# Altium schematic symbol library Isolator.SchLib: 331 symbols (part 3 of 3)
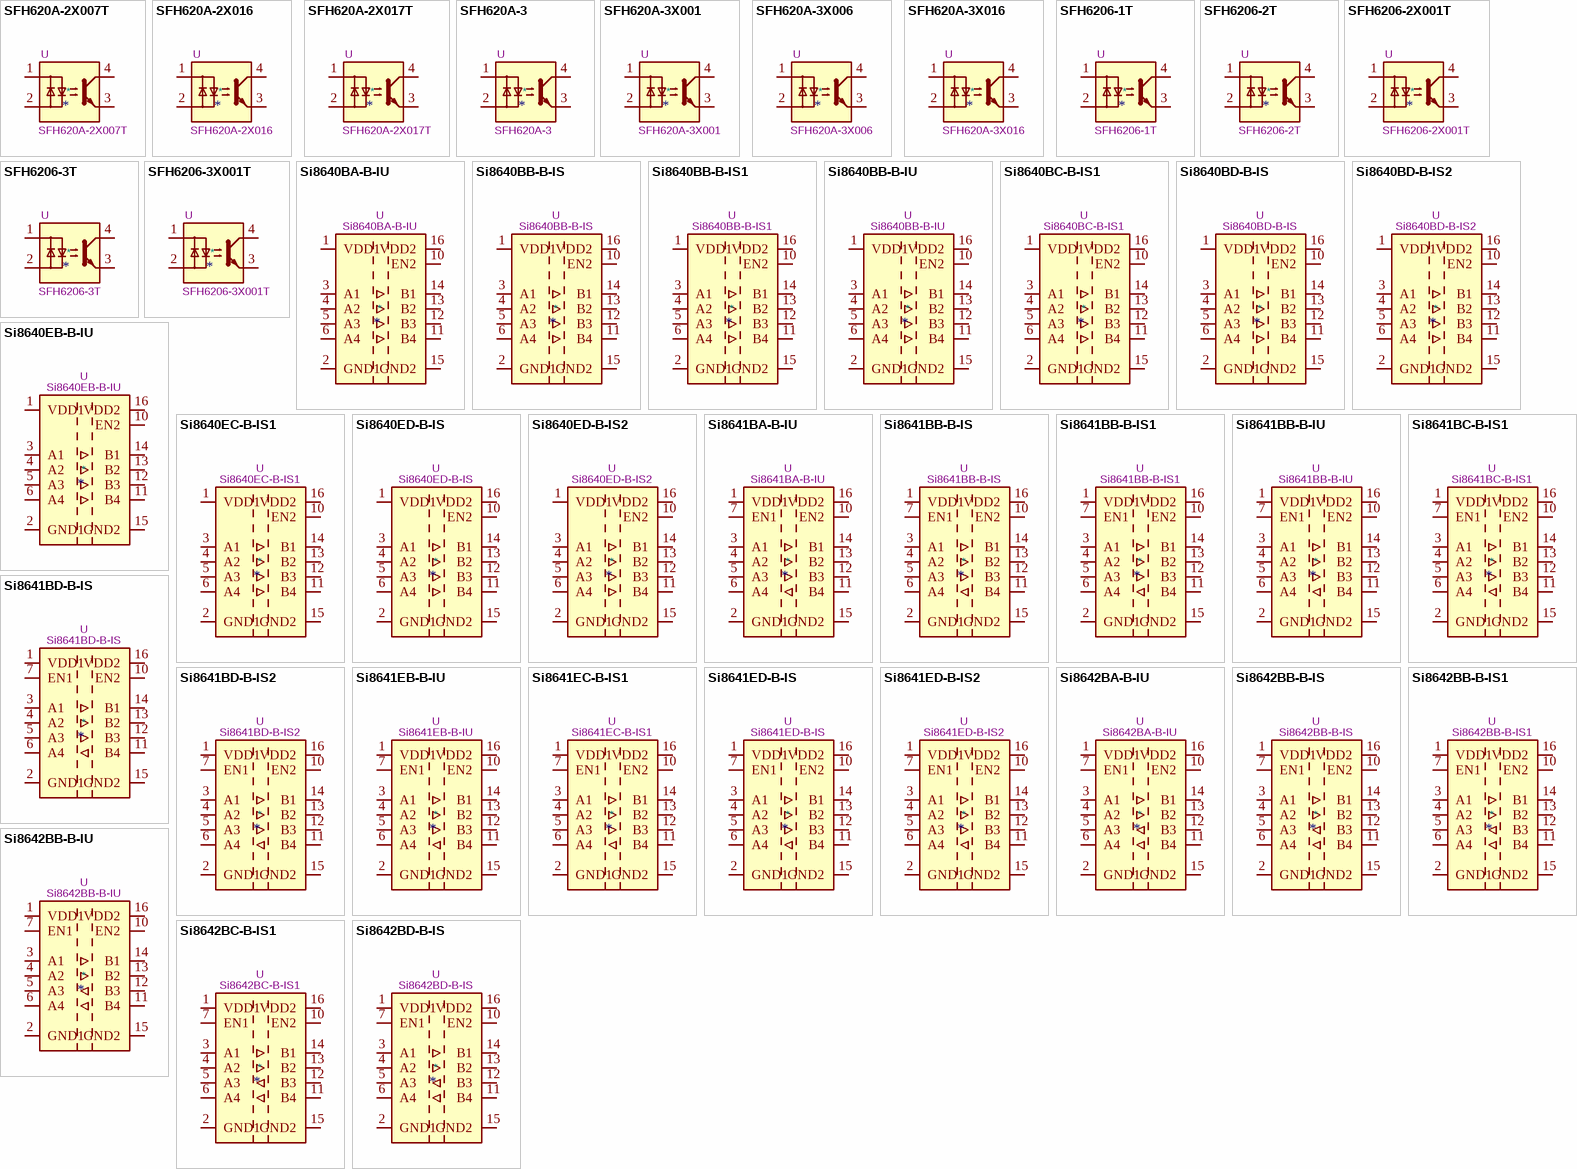
[diagram p11: symbols SFH620A-2X007T to Si8642BD-B-IS]

## Si8640BB-B-IU
designator *  value Si8640BB-B-IU  Reference: U
ki_keywords: 4Ch 4In Quad Digital Isolator 150Mbps; ki_description: Low-Power Quad-Channel Digital Isolator, 150Mbps, 2.5-5.5V, 2.5kV isolation, Fail-Safe Low, QSOP-16; ki_fp_filters: QSOP*3.9x4.9mm*P0.635mm*; Footprint: Package_SO:QSOP-16_3.9x4.9mm_P0.635mm; Datasheet: https://www.silabs.com/documents/public/data-sheets/si864x-datasheet.pdf
pins: 1 VDD1, 2 GND1, 3 A1, 4 A2, 5 A3, 6 A4, 7 NC hidden, 8 GND1 hidden, 9 GND2 hidden, 10 EN2, 11 B4, 12 B3, 13 B2, 14 B1, 15 GND2, 16 VDD2

## Si8640BC-B-IS1
designator *  value Si8640BC-B-IS1  Reference: U
ki_keywords: 4Ch 4In Quad Digital Isolator 150Mbps; ki_description: Low-Power Quad-Channel Digital Isolator, 150Mbps, 2.5-5.5V, 3.75kV isolation, Fail-Safe Low, SOIC-16; ki_fp_filters: SOIC*3.9x9.9mm*P1.27mm*; Footprint: Package_SO:SOIC-16_3.9x9.9mm_P1.27mm; Datasheet: https://www.silabs.com/documents/public/data-sheets/si864x-datasheet.pdf
pins: 1 VDD1, 2 GND1, 3 A1, 4 A2, 5 A3, 6 A4, 7 NC hidden, 8 GND1 hidden, 9 GND2 hidden, 10 EN2, 11 B4, 12 B3, 13 B2, 14 B1, 15 GND2, 16 VDD2

## Si8640BD-B-IS
designator *  value Si8640BD-B-IS  Reference: U
ki_keywords: 4Ch 4In Quad Digital Isolator 150Mbps; ki_description: Low-Power Quad-Channel Digital Isolator, 150Mbps, 2.5-5.5V, 5.0kV isolation, Fail-Safe Low, SOIC-16W; ki_fp_filters: SOIC*7.5x10.3mm*P1.27mm*; Footprint: Package_SO:SOIC-16W_7.5x10.3mm_P1.27mm; Datasheet: https://www.silabs.com/documents/public/data-sheets/si864x-datasheet.pdf
pins: 1 VDD1, 2 GND1, 3 A1, 4 A2, 5 A3, 6 A4, 7 NC hidden, 8 GND1 hidden, 9 GND2 hidden, 10 EN2, 11 B4, 12 B3, 13 B2, 14 B1, 15 GND2, 16 VDD2

## Si8640BD-B-IS2
designator *  value Si8640BD-B-IS2  Reference: U
ki_keywords: 4Ch 4In Quad Digital Isolator 150Mbps; ki_description: Low-Power Quad-Channel Digital Isolator, 150Mbps, 2.5-5.5V, 5.0kV isolation, Fail-Safe Low, 8mm creepage, SOIC-16W; ki_fp_filters: SOIC*7.5x10.3mm*P1.27mm*; Footprint: Package_SO:SOIC-16W_7.5x10.3mm_P1.27mm; Datasheet: https://www.silabs.com/documents/public/data-sheets/si864x-datasheet.pdf
pins: 1 VDD1, 2 GND1, 3 A1, 4 A2, 5 A3, 6 A4, 7 NC hidden, 8 GND1 hidden, 9 GND2 hidden, 10 EN2, 11 B4, 12 B3, 13 B2, 14 B1, 15 GND2, 16 VDD2

## Si8640EB-B-IU
designator *  value Si8640EB-B-IU  Reference: U
ki_keywords: 4Ch 4In Quad Digital Isolator 150Mbps; ki_description: Low-Power Quad-Channel Digital Isolator, 150Mbps, 2.5-5.5V, 2.5kV isolation, Fail-Safe High, QSOP-16; ki_fp_filters: QSOP*3.9x4.9mm*P0.635mm*; Footprint: Package_SO:QSOP-16_3.9x4.9mm_P0.635mm; Datasheet: https://www.silabs.com/documents/public/data-sheets/si864x-datasheet.pdf
pins: 1 VDD1, 2 GND1, 3 A1, 4 A2, 5 A3, 6 A4, 7 NC hidden, 8 GND1 hidden, 9 GND2 hidden, 10 EN2, 11 B4, 12 B3, 13 B2, 14 B1, 15 GND2, 16 VDD2

## Si8640EC-B-IS1
designator *  value Si8640EC-B-IS1  Reference: U
ki_keywords: 4Ch 4In Quad Digital Isolator 150Mbps; ki_description: Low-Power Quad-Channel Digital Isolator, 150Mbps, 2.5-5.5V, 3.75kV isolation, Fail-Safe High, SOIC-16; ki_fp_filters: SOIC*3.9x9.9mm*P1.27mm*; Footprint: Package_SO:SOIC-16_3.9x9.9mm_P1.27mm; Datasheet: https://www.silabs.com/documents/public/data-sheets/si864x-datasheet.pdf
pins: 1 VDD1, 2 GND1, 3 A1, 4 A2, 5 A3, 6 A4, 7 NC hidden, 8 GND1 hidden, 9 GND2 hidden, 10 EN2, 11 B4, 12 B3, 13 B2, 14 B1, 15 GND2, 16 VDD2

## Si8640ED-B-IS
designator *  value Si8640ED-B-IS  Reference: U
ki_keywords: 4Ch 4In Quad Digital Isolator 150Mbps; ki_description: Low-Power Quad-Channel Digital Isolator, 150Mbps, 2.5-5.5V, 5.0kV isolation, Fail-Safe High, SOIC-16W; ki_fp_filters: SOIC*7.5x10.3mm*P1.27mm*; Footprint: Package_SO:SOIC-16W_7.5x10.3mm_P1.27mm; Datasheet: https://www.silabs.com/documents/public/data-sheets/si864x-datasheet.pdf
pins: 1 VDD1, 2 GND1, 3 A1, 4 A2, 5 A3, 6 A4, 7 NC hidden, 8 GND1 hidden, 9 GND2 hidden, 10 EN2, 11 B4, 12 B3, 13 B2, 14 B1, 15 GND2, 16 VDD2

## Si8640ED-B-IS2
designator *  value Si8640ED-B-IS2  Reference: U
ki_keywords: 4Ch 4In Quad Digital Isolator 150Mbps; ki_description: Low-Power Quad-Channel Digital Isolator, 150Mbps, 2.5-5.5V, 5.0kV isolation, Fail-Safe High, 8mm creepage, SOIC-16W; ki_fp_filters: SOIC*7.5x10.3mm*P1.27mm*; Footprint: Package_SO:SOIC-16W_7.5x10.3mm_P1.27mm; Datasheet: https://www.silabs.com/documents/public/data-sheets/si864x-datasheet.pdf
pins: 1 VDD1, 2 GND1, 3 A1, 4 A2, 5 A3, 6 A4, 7 NC hidden, 8 GND1 hidden, 9 GND2 hidden, 10 EN2, 11 B4, 12 B3, 13 B2, 14 B1, 15 GND2, 16 VDD2

## Si8641BA-B-IU
designator *  value Si8641BA-B-IU  Reference: U
ki_keywords: 4Ch 3In 1Out Quad Digital Isolator 150Mbps; ki_description: Low-Power Quad-Channel Digital Isolator, 150Mbps, 2.5-5.5V, 1.0kV isolation, Fail-Safe Low, QSOP-16; ki_fp_filters: QSOP*3.9x4.9mm*P0.635mm*; Footprint: Package_SO:QSOP-16_3.9x4.9mm_P0.635mm; Datasheet: https://www.silabs.com/documents/public/data-sheets/si864x-datasheet.pdf
pins: 1 VDD1, 2 GND1, 3 A1, 4 A2, 5 A3, 6 A4, 7 EN1, 8 GND1 hidden, 9 GND2 hidden, 10 EN2, 11 B4, 12 B3, 13 B2, 14 B1, 15 GND2, 16 VDD2

## Si8641BB-B-IS
designator *  value Si8641BB-B-IS  Reference: U
ki_keywords: 4Ch 3In 1Out Quad Digital Isolator 150Mbps; ki_description: Low-Power Quad-Channel Digital Isolator, 150Mbps, 2.5-5.5V, 2.5kV isolation, Fail-Safe Low, SOIC-16W; ki_fp_filters: SOIC*7.5x10.3mm*P1.27mm*; Footprint: Package_SO:SOIC-16W_7.5x10.3mm_P1.27mm; Datasheet: https://www.silabs.com/documents/public/data-sheets/si864x-datasheet.pdf
pins: 1 VDD1, 2 GND1, 3 A1, 4 A2, 5 A3, 6 A4, 7 EN1, 8 GND1 hidden, 9 GND2 hidden, 10 EN2, 11 B4, 12 B3, 13 B2, 14 B1, 15 GND2, 16 VDD2

## Si8641BB-B-IS1
designator *  value Si8641BB-B-IS1  Reference: U
ki_keywords: 4Ch 3In 1Out Quad Digital Isolator 150Mbps; ki_description: Low-Power Quad-Channel Digital Isolator, 150Mbps, 2.5-5.5V, 2.5kV isolation, Fail-Safe Low, SOIC-16; ki_fp_filters: SOIC*3.9x9.9mm*P1.27mm*; Footprint: Package_SO:SOIC-16_3.9x9.9mm_P1.27mm; Datasheet: https://www.silabs.com/documents/public/data-sheets/si864x-datasheet.pdf
pins: 1 VDD1, 2 GND1, 3 A1, 4 A2, 5 A3, 6 A4, 7 EN1, 8 GND1 hidden, 9 GND2 hidden, 10 EN2, 11 B4, 12 B3, 13 B2, 14 B1, 15 GND2, 16 VDD2

## Si8641BB-B-IU
designator *  value Si8641BB-B-IU  Reference: U
ki_keywords: 4Ch 3In 1Out Quad Digital Isolator 150Mbps; ki_description: Low-Power Quad-Channel Digital Isolator, 150Mbps, 2.5-5.5V, 2.5kV isolation, Fail-Safe Low, QSOP-16; ki_fp_filters: QSOP*3.9x4.9mm*P0.635mm*; Footprint: Package_SO:QSOP-16_3.9x4.9mm_P0.635mm; Datasheet: https://www.silabs.com/documents/public/data-sheets/si864x-datasheet.pdf
pins: 1 VDD1, 2 GND1, 3 A1, 4 A2, 5 A3, 6 A4, 7 EN1, 8 GND1 hidden, 9 GND2 hidden, 10 EN2, 11 B4, 12 B3, 13 B2, 14 B1, 15 GND2, 16 VDD2

## Si8641BC-B-IS1
designator *  value Si8641BC-B-IS1  Reference: U
ki_keywords: 4Ch 3In 1Out Quad Digital Isolator 150Mbps; ki_description: Low-Power Quad-Channel Digital Isolator, 150Mbps, 2.5-5.5V, 3.75kV isolation, Fail-Safe Low, SOIC-16; ki_fp_filters: SOIC*3.9x9.9mm*P1.27mm*; Footprint: Package_SO:SOIC-16_3.9x9.9mm_P1.27mm; Datasheet: https://www.silabs.com/documents/public/data-sheets/si864x-datasheet.pdf
pins: 1 VDD1, 2 GND1, 3 A1, 4 A2, 5 A3, 6 A4, 7 EN1, 8 GND1 hidden, 9 GND2 hidden, 10 EN2, 11 B4, 12 B3, 13 B2, 14 B1, 15 GND2, 16 VDD2

## Si8641BD-B-IS
designator *  value Si8641BD-B-IS  Reference: U
ki_keywords: 4Ch 3In 1Out Quad Digital Isolator 150Mbps; ki_description: Low-Power Quad-Channel Digital Isolator, 150Mbps, 2.5-5.5V, 5.0kV isolation, Fail-Safe Low, SOIC-16W; ki_fp_filters: SOIC*7.5x10.3mm*P1.27mm*; Footprint: Package_SO:SOIC-16W_7.5x10.3mm_P1.27mm; Datasheet: https://www.silabs.com/documents/public/data-sheets/si864x-datasheet.pdf
pins: 1 VDD1, 2 GND1, 3 A1, 4 A2, 5 A3, 6 A4, 7 EN1, 8 GND1 hidden, 9 GND2 hidden, 10 EN2, 11 B4, 12 B3, 13 B2, 14 B1, 15 GND2, 16 VDD2

## Si8641BD-B-IS2
designator *  value Si8641BD-B-IS2  Reference: U
ki_keywords: 4Ch 3In 1Out Quad Digital Isolator 150Mbps; ki_description: Low-Power Quad-Channel Digital Isolator, 150Mbps, 2.5-5.5V, 5.0kV isolation, Fail-Safe Low, 8mm creepage, SOIC-16W; ki_fp_filters: SOIC*7.5x10.3mm*P1.27mm*; Footprint: Package_SO:SOIC-16W_7.5x10.3mm_P1.27mm; Datasheet: https://www.silabs.com/documents/public/data-sheets/si864x-datasheet.pdf
pins: 1 VDD1, 2 GND1, 3 A1, 4 A2, 5 A3, 6 A4, 7 EN1, 8 GND1 hidden, 9 GND2 hidden, 10 EN2, 11 B4, 12 B3, 13 B2, 14 B1, 15 GND2, 16 VDD2

## Si8641EB-B-IU
designator *  value Si8641EB-B-IU  Reference: U
ki_keywords: 4Ch 3In 1Out Quad Digital Isolator 150Mbps; ki_description: Low-Power Quad-Channel Digital Isolator, 150Mbps, 2.5-5.5V, 2.5kV isolation, Fail-Safe High, QSOP-16; ki_fp_filters: QSOP*3.9x4.9mm*P0.635mm*; Footprint: Package_SO:QSOP-16_3.9x4.9mm_P0.635mm; Datasheet: https://www.silabs.com/documents/public/data-sheets/si864x-datasheet.pdf
pins: 1 VDD1, 2 GND1, 3 A1, 4 A2, 5 A3, 6 A4, 7 EN1, 8 GND1 hidden, 9 GND2 hidden, 10 EN2, 11 B4, 12 B3, 13 B2, 14 B1, 15 GND2, 16 VDD2

## Si8641EC-B-IS1
designator *  value Si8641EC-B-IS1  Reference: U
ki_keywords: 4Ch 3In 1Out Quad Digital Isolator 150Mbps; ki_description: Low-Power Quad-Channel Digital Isolator, 150Mbps, 2.5-5.5V, 3.75kV isolation, Fail-Safe High, SOIC-16; ki_fp_filters: SOIC*3.9x9.9mm*P1.27mm*; Footprint: Package_SO:SOIC-16_3.9x9.9mm_P1.27mm; Datasheet: https://www.silabs.com/documents/public/data-sheets/si864x-datasheet.pdf
pins: 1 VDD1, 2 GND1, 3 A1, 4 A2, 5 A3, 6 A4, 7 EN1, 8 GND1 hidden, 9 GND2 hidden, 10 EN2, 11 B4, 12 B3, 13 B2, 14 B1, 15 GND2, 16 VDD2

## Si8641ED-B-IS
designator *  value Si8641ED-B-IS  Reference: U
ki_keywords: 4Ch 3In 1Out Quad Digital Isolator 150Mbps; ki_description: Low-Power Quad-Channel Digital Isolator, 150Mbps, 2.5-5.5V, 5.0kV isolation, Fail-Safe High, SOIC-16W; ki_fp_filters: SOIC*7.5x10.3mm*P1.27mm*; Footprint: Package_SO:SOIC-16W_7.5x10.3mm_P1.27mm; Datasheet: https://www.silabs.com/documents/public/data-sheets/si864x-datasheet.pdf
pins: 1 VDD1, 2 GND1, 3 A1, 4 A2, 5 A3, 6 A4, 7 EN1, 8 GND1 hidden, 9 GND2 hidden, 10 EN2, 11 B4, 12 B3, 13 B2, 14 B1, 15 GND2, 16 VDD2

## Si8641ED-B-IS2
designator *  value Si8641ED-B-IS2  Reference: U
ki_keywords: 4Ch 3In 1Out Quad Digital Isolator 150Mbps; ki_description: Low-Power Quad-Channel Digital Isolator, 150Mbps, 2.5-5.5V, 5.0kV isolation, Fail-Safe High, 8mm creepage, SOIC-16W; ki_fp_filters: SOIC*7.5x10.3mm*P1.27mm*; Footprint: Package_SO:SOIC-16W_7.5x10.3mm_P1.27mm; Datasheet: https://www.silabs.com/documents/public/data-sheets/si864x-datasheet.pdf
pins: 1 VDD1, 2 GND1, 3 A1, 4 A2, 5 A3, 6 A4, 7 EN1, 8 GND1 hidden, 9 GND2 hidden, 10 EN2, 11 B4, 12 B3, 13 B2, 14 B1, 15 GND2, 16 VDD2

## Si8642BA-B-IU
designator *  value Si8642BA-B-IU  Reference: U
ki_keywords: 4Ch 2In 2Out Quad Digital Isolator 150Mbps; ki_description: Low-Power Quad-Channel Digital Isolator, 150Mbps, 2.5-5.5V, 1.0kV isolation, Fail-Safe Low, QSOP-16; ki_fp_filters: QSOP*3.9x4.9mm*P0.635mm*; Footprint: Package_SO:QSOP-16_3.9x4.9mm_P0.635mm; Datasheet: https://www.silabs.com/documents/public/data-sheets/si864x-datasheet.pdf
pins: 1 VDD1, 2 GND1, 3 A1, 4 A2, 5 A3, 6 A4, 7 EN1, 8 GND1 hidden, 9 GND2 hidden, 10 EN2, 11 B4, 12 B3, 13 B2, 14 B1, 15 GND2, 16 VDD2

## Si8642BB-B-IS
designator *  value Si8642BB-B-IS  Reference: U
ki_keywords: 4Ch 2In 2Out Quad Digital Isolator 150Mbps; ki_description: Low-Power Quad-Channel Digital Isolator, 150Mbps, 2.5-5.5V, 2.5kV isolation, Fail-Safe Low, SOIC-16W; ki_fp_filters: SOIC*7.5x10.3mm*P1.27mm*; Footprint: Package_SO:SOIC-16W_7.5x10.3mm_P1.27mm; Datasheet: https://www.silabs.com/documents/public/data-sheets/si864x-datasheet.pdf
pins: 1 VDD1, 2 GND1, 3 A1, 4 A2, 5 A3, 6 A4, 7 EN1, 8 GND1 hidden, 9 GND2 hidden, 10 EN2, 11 B4, 12 B3, 13 B2, 14 B1, 15 GND2, 16 VDD2

## Si8642BB-B-IS1
designator *  value Si8642BB-B-IS1  Reference: U
ki_keywords: 4Ch 2In 2Out Quad Digital Isolator 150Mbps; ki_description: Low-Power Quad-Channel Digital Isolator, 150Mbps, 2.5-5.5V, 2.5kV isolation, Fail-Safe Low, SOIC-16; ki_fp_filters: SOIC*3.9x9.9mm*P1.27mm*; Footprint: Package_SO:SOIC-16_3.9x9.9mm_P1.27mm; Datasheet: https://www.silabs.com/documents/public/data-sheets/si864x-datasheet.pdf
pins: 1 VDD1, 2 GND1, 3 A1, 4 A2, 5 A3, 6 A4, 7 EN1, 8 GND1 hidden, 9 GND2 hidden, 10 EN2, 11 B4, 12 B3, 13 B2, 14 B1, 15 GND2, 16 VDD2

## Si8642BB-B-IU
designator *  value Si8642BB-B-IU  Reference: U
ki_keywords: 4Ch 2In 2Out Quad Digital Isolator 150Mbps; ki_description: Low-Power Quad-Channel Digital Isolator, 150Mbps, 2.5-5.5V, 2.5kV isolation, Fail-Safe Low, QSOP-16; ki_fp_filters: QSOP*3.9x4.9mm*P0.635mm*; Footprint: Package_SO:QSOP-16_3.9x4.9mm_P0.635mm; Datasheet: https://www.silabs.com/documents/public/data-sheets/si864x-datasheet.pdf
pins: 1 VDD1, 2 GND1, 3 A1, 4 A2, 5 A3, 6 A4, 7 EN1, 8 GND1 hidden, 9 GND2 hidden, 10 EN2, 11 B4, 12 B3, 13 B2, 14 B1, 15 GND2, 16 VDD2

## Si8642BC-B-IS1
designator *  value Si8642BC-B-IS1  Reference: U
ki_keywords: 4Ch 2In 2Out Quad Digital Isolator 150Mbps; ki_description: Low-Power Quad-Channel Digital Isolator, 150Mbps, 2.5-5.5V, 3.75kV isolation, Fail-Safe Low, SOIC-16; ki_fp_filters: SOIC*3.9x9.9mm*P1.27mm*; Footprint: Package_SO:SOIC-16_3.9x9.9mm_P1.27mm; Datasheet: https://www.silabs.com/documents/public/data-sheets/si864x-datasheet.pdf
pins: 1 VDD1, 2 GND1, 3 A1, 4 A2, 5 A3, 6 A4, 7 EN1, 8 GND1 hidden, 9 GND2 hidden, 10 EN2, 11 B4, 12 B3, 13 B2, 14 B1, 15 GND2, 16 VDD2

## Si8642BD-B-IS
designator *  value Si8642BD-B-IS  Reference: U
ki_keywords: 4Ch 2In 2Out Quad Digital Isolator 150Mbps; ki_description: Low-Power Quad-Channel Digital Isolator, 150Mbps, 2.5-5.5V, 5.0kV isolation, Fail-Safe Low, SOIC-16W; ki_fp_filters: SOIC*7.5x10.3mm*P1.27mm*; Footprint: Package_SO:SOIC-16W_7.5x10.3mm_P1.27mm; Datasheet: https://www.silabs.com/documents/public/data-sheets/si864x-datasheet.pdf
pins: 1 VDD1, 2 GND1, 3 A1, 4 A2, 5 A3, 6 A4, 7 EN1, 8 GND1 hidden, 9 GND2 hidden, 10 EN2, 11 B4, 12 B3, 13 B2, 14 B1, 15 GND2, 16 VDD2

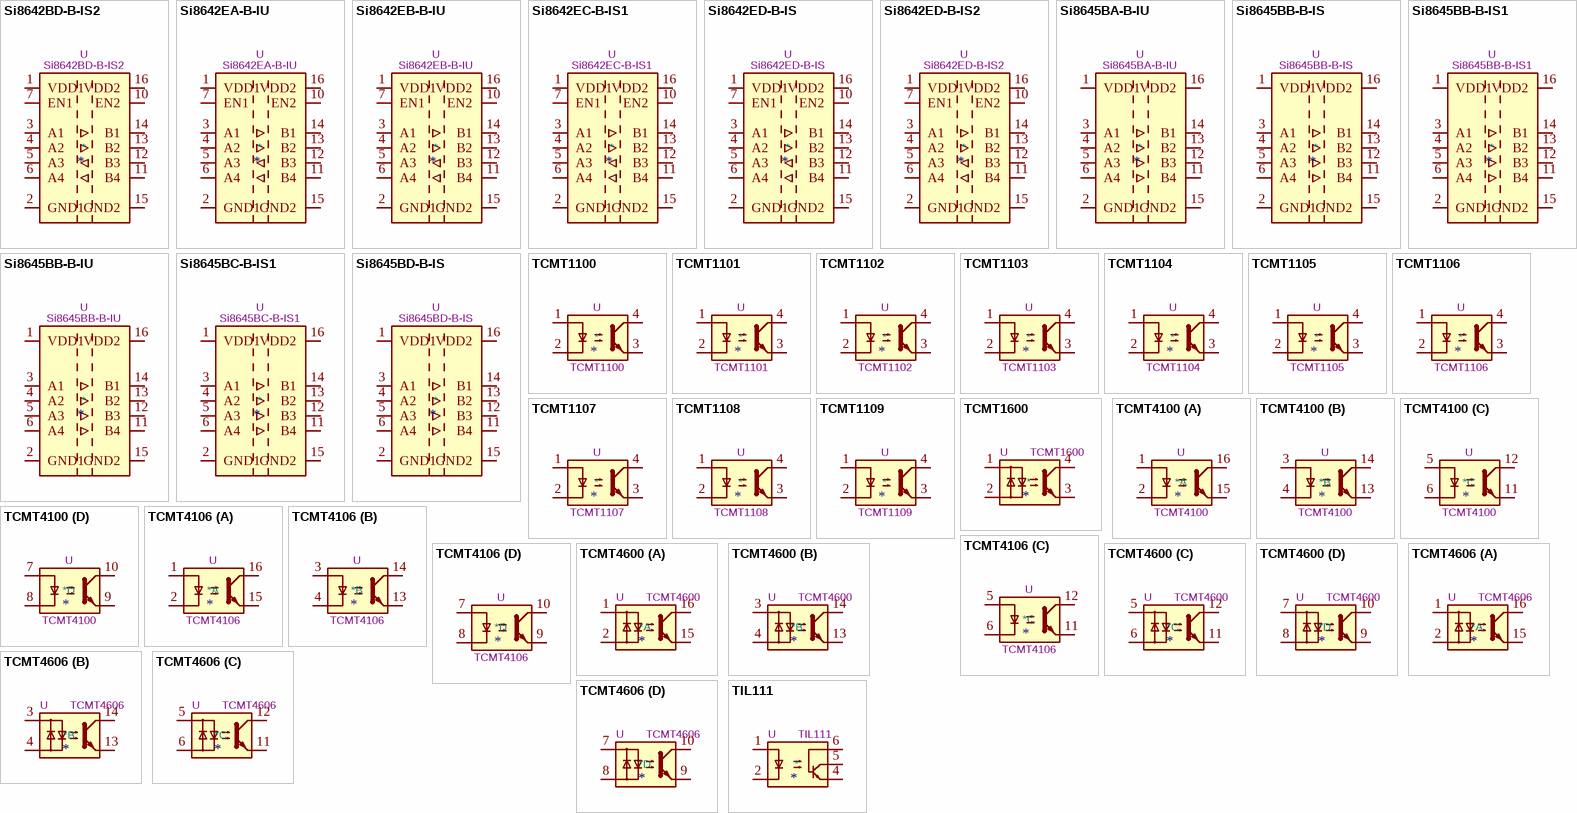
[diagram p7: symbols Si8642BD-B-IS2 to TIL111]

## Si8642BD-B-IS2
designator *  value Si8642BD-B-IS2  Reference: U
ki_keywords: 4Ch 2In 2Out Quad Digital Isolator 150Mbps; ki_description: Low-Power Quad-Channel Digital Isolator, 150Mbps, 2.5-5.5V, 5.0kV isolation, Fail-Safe Low, 8mm creepage, SOIC-16W; ki_fp_filters: SOIC*7.5x10.3mm*P1.27mm*; Footprint: Package_SO:SOIC-16W_7.5x10.3mm_P1.27mm; Datasheet: https://www.silabs.com/documents/public/data-sheets/si864x-datasheet.pdf
pins: 1 VDD1, 2 GND1, 3 A1, 4 A2, 5 A3, 6 A4, 7 EN1, 8 GND1 hidden, 9 GND2 hidden, 10 EN2, 11 B4, 12 B3, 13 B2, 14 B1, 15 GND2, 16 VDD2

## Si8642EA-B-IU
designator *  value Si8642EA-B-IU  Reference: U
ki_keywords: 4Ch 2In 2Out Quad Digital Isolator 150Mbps; ki_description: Low-Power Quad-Channel Digital Isolator, 150Mbps, 2.5-5.5V, 1.0kV isolation, Fail-Safe High, QSOP-16; ki_fp_filters: QSOP*3.9x4.9mm*P0.635mm*; Footprint: Package_SO:QSOP-16_3.9x4.9mm_P0.635mm; Datasheet: https://www.silabs.com/documents/public/data-sheets/si864x-datasheet.pdf
pins: 1 VDD1, 2 GND1, 3 A1, 4 A2, 5 A3, 6 A4, 7 EN1, 8 GND1 hidden, 9 GND2 hidden, 10 EN2, 11 B4, 12 B3, 13 B2, 14 B1, 15 GND2, 16 VDD2

## Si8642EB-B-IU
designator *  value Si8642EB-B-IU  Reference: U
ki_keywords: 4Ch 2In 2Out Quad Digital Isolator 150Mbps; ki_description: Low-Power Quad-Channel Digital Isolator, 150Mbps, 2.5-5.5V, 2.5kV isolation, Fail-Safe High, QSOP-16; ki_fp_filters: QSOP*3.9x4.9mm*P0.635mm*; Footprint: Package_SO:QSOP-16_3.9x4.9mm_P0.635mm; Datasheet: https://www.silabs.com/documents/public/data-sheets/si864x-datasheet.pdf
pins: 1 VDD1, 2 GND1, 3 A1, 4 A2, 5 A3, 6 A4, 7 EN1, 8 GND1 hidden, 9 GND2 hidden, 10 EN2, 11 B4, 12 B3, 13 B2, 14 B1, 15 GND2, 16 VDD2

## Si8642EC-B-IS1
designator *  value Si8642EC-B-IS1  Reference: U
ki_keywords: 4Ch 2In 2Out Quad Digital Isolator 150Mbps; ki_description: Low-Power Quad-Channel Digital Isolator, 150Mbps, 2.5-5.5V, 3.75kV isolation, Fail-Safe High, SOIC-16; ki_fp_filters: SOIC*3.9x9.9mm*P1.27mm*; Footprint: Package_SO:SOIC-16_3.9x9.9mm_P1.27mm; Datasheet: https://www.silabs.com/documents/public/data-sheets/si864x-datasheet.pdf
pins: 1 VDD1, 2 GND1, 3 A1, 4 A2, 5 A3, 6 A4, 7 EN1, 8 GND1 hidden, 9 GND2 hidden, 10 EN2, 11 B4, 12 B3, 13 B2, 14 B1, 15 GND2, 16 VDD2

## Si8642ED-B-IS
designator *  value Si8642ED-B-IS  Reference: U
ki_keywords: 4Ch 2In 2Out Quad Digital Isolator 150Mbps; ki_description: Low-Power Quad-Channel Digital Isolator, 150Mbps, 2.5-5.5V, 5.0kV isolation, Fail-Safe High, SOIC-16W; ki_fp_filters: SOIC*7.5x10.3mm*P1.27mm*; Footprint: Package_SO:SOIC-16W_7.5x10.3mm_P1.27mm; Datasheet: https://www.silabs.com/documents/public/data-sheets/si864x-datasheet.pdf
pins: 1 VDD1, 2 GND1, 3 A1, 4 A2, 5 A3, 6 A4, 7 EN1, 8 GND1 hidden, 9 GND2 hidden, 10 EN2, 11 B4, 12 B3, 13 B2, 14 B1, 15 GND2, 16 VDD2

## Si8642ED-B-IS2
designator *  value Si8642ED-B-IS2  Reference: U
ki_keywords: 4Ch 2In 2Out Quad Digital Isolator 150Mbps; ki_description: Low-Power Quad-Channel Digital Isolator, 150Mbps, 2.5-5.5V, 5.0kV isolation, Fail-Safe High, 8mm creepage, SOIC-16W; ki_fp_filters: SOIC*7.5x10.3mm*P1.27mm*; Footprint: Package_SO:SOIC-16W_7.5x10.3mm_P1.27mm; Datasheet: https://www.silabs.com/documents/public/data-sheets/si864x-datasheet.pdf
pins: 1 VDD1, 2 GND1, 3 A1, 4 A2, 5 A3, 6 A4, 7 EN1, 8 GND1 hidden, 9 GND2 hidden, 10 EN2, 11 B4, 12 B3, 13 B2, 14 B1, 15 GND2, 16 VDD2

## Si8645BA-B-IU
designator *  value Si8645BA-B-IU  Reference: U
ki_keywords: 4Ch 4In Quad Digital Isolator 150Mbps; ki_description: Low-Power Quad-Channel Digital Isolator, 150Mbps, 2.5-5.5V, 1.0kV isolation, Fail-Safe Low, QSOP-16; ki_fp_filters: QSOP*3.9x4.9mm*P0.635mm*; Footprint: Package_SO:QSOP-16_3.9x4.9mm_P0.635mm; Datasheet: https://www.silabs.com/documents/public/data-sheets/si864x-datasheet.pdf
pins: 1 VDD1, 2 GND1, 3 A1, 4 A2, 5 A3, 6 A4, 7 NC hidden, 8 GND1 hidden, 9 GND2 hidden, 10 NC hidden, 11 B4, 12 B3, 13 B2, 14 B1, 15 GND2, 16 VDD2

## Si8645BB-B-IS
designator *  value Si8645BB-B-IS  Reference: U
ki_keywords: 4Ch 4In Quad Digital Isolator 150Mbps; ki_description: Low-Power Quad-Channel Digital Isolator, 150Mbps, 2.5-5.5V, 2.5kV isolation, Fail-Safe Low, SOIC-16W; ki_fp_filters: SOIC*7.5x10.3mm*P1.27mm*; Footprint: Package_SO:SOIC-16W_7.5x10.3mm_P1.27mm; Datasheet: https://www.silabs.com/documents/public/data-sheets/si864x-datasheet.pdf
pins: 1 VDD1, 2 GND1, 3 A1, 4 A2, 5 A3, 6 A4, 7 NC hidden, 8 GND1 hidden, 9 GND2 hidden, 10 NC hidden, 11 B4, 12 B3, 13 B2, 14 B1, 15 GND2, 16 VDD2

## Si8645BB-B-IS1
designator *  value Si8645BB-B-IS1  Reference: U
ki_keywords: 4Ch 4In Quad Digital Isolator 150Mbps; ki_description: Low-Power Quad-Channel Digital Isolator, 150Mbps, 2.5-5.5V, 2.5kV isolation, Fail-Safe Low, SOIC-16; ki_fp_filters: SOIC*3.9x9.9mm*P1.27mm*; Footprint: Package_SO:SOIC-16_3.9x9.9mm_P1.27mm; Datasheet: https://www.silabs.com/documents/public/data-sheets/si864x-datasheet.pdf
pins: 1 VDD1, 2 GND1, 3 A1, 4 A2, 5 A3, 6 A4, 7 NC hidden, 8 GND1 hidden, 9 GND2 hidden, 10 NC hidden, 11 B4, 12 B3, 13 B2, 14 B1, 15 GND2, 16 VDD2

## Si8645BB-B-IU
designator *  value Si8645BB-B-IU  Reference: U
ki_keywords: 4Ch 4In Quad Digital Isolator 150Mbps; ki_description: Low-Power Quad-Channel Digital Isolator, 150Mbps, 2.5-5.5V, 2.5kV isolation, Fail-Safe Low, QSOP-16; ki_fp_filters: QSOP*3.9x4.9mm*P0.635mm*; Footprint: Package_SO:QSOP-16_3.9x4.9mm_P0.635mm; Datasheet: https://www.silabs.com/documents/public/data-sheets/si864x-datasheet.pdf
pins: 1 VDD1, 2 GND1, 3 A1, 4 A2, 5 A3, 6 A4, 7 NC hidden, 8 GND1 hidden, 9 GND2 hidden, 10 NC hidden, 11 B4, 12 B3, 13 B2, 14 B1, 15 GND2, 16 VDD2

## Si8645BC-B-IS1
designator *  value Si8645BC-B-IS1  Reference: U
ki_keywords: 4Ch 4In Quad Digital Isolator 150Mbps; ki_description: Low-Power Quad-Channel Digital Isolator, 150Mbps, 2.5-5.5V, 3.75kV isolation, Fail-Safe Low, SOIC-16; ki_fp_filters: SOIC*3.9x9.9mm*P1.27mm*; Footprint: Package_SO:SOIC-16_3.9x9.9mm_P1.27mm; Datasheet: https://www.silabs.com/documents/public/data-sheets/si864x-datasheet.pdf
pins: 1 VDD1, 2 GND1, 3 A1, 4 A2, 5 A3, 6 A4, 7 NC hidden, 8 GND1 hidden, 9 GND2 hidden, 10 NC hidden, 11 B4, 12 B3, 13 B2, 14 B1, 15 GND2, 16 VDD2

## Si8645BD-B-IS
designator *  value Si8645BD-B-IS  Reference: U
ki_keywords: 4Ch 4In Quad Digital Isolator 150Mbps; ki_description: Low-Power Quad-Channel Digital Isolator, 150Mbps, 2.5-5.5V, 5.0kV isolation, Fail-Safe Low, SOIC-16W; ki_fp_filters: SOIC*7.5x10.3mm*P1.27mm*; Footprint: Package_SO:SOIC-16W_7.5x10.3mm_P1.27mm; Datasheet: https://www.silabs.com/documents/public/data-sheets/si864x-datasheet.pdf
pins: 1 VDD1, 2 GND1, 3 A1, 4 A2, 5 A3, 6 A4, 7 NC hidden, 8 GND1 hidden, 9 GND2 hidden, 10 NC hidden, 11 B4, 12 B3, 13 B2, 14 B1, 15 GND2, 16 VDD2

## TCMT1100
designator *  value TCMT1100  Reference: U
ki_keywords: NPN DC opto; ki_description: Optocoupler, Vce 70V, CTR 50-600%, Viso 3750V (RMS), SOP-4; ki_fp_filters: SOP*4.4x2.6mm*P1.27mm*; Footprint: Package_SO:SOP-4_4.4x2.6mm_P1.27mm; Datasheet: http://www.vishay.com/docs/83510/tcmt1100.pdf
pins: 1, 2, 3, 4

## TCMT1101
designator *  value TCMT1101  Reference: U
ki_keywords: NPN DC opto; ki_description: Optocoupler, Vce 70V, CTR 40-80%, Viso 3750V (RMS), SOP-4; ki_fp_filters: SOP*4.4x2.6mm*P1.27mm*; Footprint: Package_SO:SOP-4_4.4x2.6mm_P1.27mm; Datasheet: http://www.vishay.com/docs/83510/tcmt1100.pdf
pins: 1, 2, 3, 4

## TCMT1102
designator *  value TCMT1102  Reference: U
ki_keywords: NPN DC opto; ki_description: Optocoupler, Vce 70V, CTR 63-125%, Viso 3750V (RMS), SOP-4; ki_fp_filters: SOP*4.4x2.6mm*P1.27mm*; Footprint: Package_SO:SOP-4_4.4x2.6mm_P1.27mm; Datasheet: http://www.vishay.com/docs/83510/tcmt1100.pdf
pins: 1, 2, 3, 4

## TCMT1103
designator *  value TCMT1103  Reference: U
ki_keywords: NPN DC opto; ki_description: Optocoupler, Vce 70V, CTR 100-200%, Viso 3750V (RMS), SOP-4; ki_fp_filters: SOP*4.4x2.6mm*P1.27mm*; Footprint: Package_SO:SOP-4_4.4x2.6mm_P1.27mm; Datasheet: http://www.vishay.com/docs/83510/tcmt1100.pdf
pins: 1, 2, 3, 4

## TCMT1104
designator *  value TCMT1104  Reference: U
ki_keywords: NPN DC opto; ki_description: Optocoupler, Vce 70V, CTR 160-320%, Viso 3750V (RMS), SOP-4; ki_fp_filters: SOP*4.4x2.6mm*P1.27mm*; Footprint: Package_SO:SOP-4_4.4x2.6mm_P1.27mm; Datasheet: http://www.vishay.com/docs/83510/tcmt1100.pdf
pins: 1, 2, 3, 4

## TCMT1105
designator *  value TCMT1105  Reference: U
ki_keywords: NPN DC opto; ki_description: Optocoupler, Vce 70V, CTR 50-150%, Viso 3750V (RMS), SOP-4; ki_fp_filters: SOP*4.4x2.6mm*P1.27mm*; Footprint: Package_SO:SOP-4_4.4x2.6mm_P1.27mm; Datasheet: http://www.vishay.com/docs/83510/tcmt1100.pdf
pins: 1, 2, 3, 4

## TCMT1106
designator *  value TCMT1106  Reference: U
ki_keywords: NPN DC opto; ki_description: Optocoupler, Vce 70V, CTR 100-300%, Viso 3750V (RMS), SOP-4; ki_fp_filters: SOP*4.4x2.6mm*P1.27mm*; Footprint: Package_SO:SOP-4_4.4x2.6mm_P1.27mm; Datasheet: http://www.vishay.com/docs/83510/tcmt1100.pdf
pins: 1, 2, 3, 4

## TCMT1107
designator *  value TCMT1107  Reference: U
ki_keywords: NPN DC opto; ki_description: Optocoupler, Vce 70V, CTR 80-160%, Viso 3750V (RMS), SOP-4; ki_fp_filters: SOP*4.4x2.6mm*P1.27mm*; Footprint: Package_SO:SOP-4_4.4x2.6mm_P1.27mm; Datasheet: http://www.vishay.com/docs/83510/tcmt1100.pdf
pins: 1, 2, 3, 4

## TCMT1108
designator *  value TCMT1108  Reference: U
ki_keywords: NPN DC opto; ki_description: Optocoupler, Vce 70V, CTR 130-260%, Viso 3750V (RMS), SOP-4; ki_fp_filters: SOP*4.4x2.6mm*P1.27mm*; Footprint: Package_SO:SOP-4_4.4x2.6mm_P1.27mm; Datasheet: http://www.vishay.com/docs/83510/tcmt1100.pdf
pins: 1, 2, 3, 4

## TCMT1109
designator *  value TCMT1109  Reference: U
ki_keywords: NPN DC opto; ki_description: Optocoupler, Vce 70V, CTR 200-400%, Viso 3750V (RMS), SOP-4; ki_fp_filters: SOP*4.4x2.6mm*P1.27mm*; Footprint: Package_SO:SOP-4_4.4x2.6mm_P1.27mm; Datasheet: http://www.vishay.com/docs/83510/tcmt1100.pdf
pins: 1, 2, 3, 4

## TCMT1600
designator *  value TCMT1600  Reference: U
ki_keywords: NPN AC DC Phototransistor Optocoupler; ki_description: AC/DC Phototransistor Optocoupler, Vce 70V, CTR 80-300%, SOP4; ki_fp_filters: SOP*4*4.4x2.6mm*P1.27mm*; Footprint: Package_SO:SOP-4_4.4x2.6mm_P1.27mm; Datasheet: http://www.vishay.com/docs/83512/tcmt1600.pdf
pins: 1, 2, 3, 4

## TCMT4100
designator *  value TCMT4100  Reference: U
ki_keywords: NPN DC opto; ki_description: Quad Optocoupler, Vce 70V, CTR 50-600%, Viso 3750V (RMS), SOP-16; ki_fp_filters: SOP*4.4x10.4mm*P1.27mm*; Footprint: Package_SO:SOP-16_4.4x10.4mm_P1.27mm; Datasheet: https://www.vishay.com/docs/84181/tcmt4100.pdf
part A pins: 1, 2, 15, 16
part B pins: 3, 4, 13, 14
part C pins: 5, 6, 11, 12
part D pins: 7, 8, 9, 10

## TCMT4106
designator *  value TCMT4106  Reference: U
ki_keywords: NPN DC opto; ki_description: Quad Optocoupler, Vce 70V, CTR 100-300%, Viso 3750V (RMS), SOP-16; ki_fp_filters: SOP*4.4x10.4mm*P1.27mm*; Footprint: Package_SO:SOP-16_4.4x10.4mm_P1.27mm; Datasheet: https://www.vishay.com/docs/84181/tcmt4100.pdf
part A pins: 1, 2, 15, 16
part B pins: 3, 4, 13, 14
part C pins: 5, 6, 11, 12
part D pins: 7, 8, 9, 10

## TCMT4600
designator *  value TCMT4600  Reference: U
ki_keywords: NPN AC DC Quad Phototransistor Optocoupler; ki_description: Quad AC/DC Phototransistor Optocoupler, Vce 70V, CTR 80-300%, SOP16; ki_fp_filters: SOP*4.55x10.3mm*P1.27mm*; Footprint: Package_SO:SOP-16_4.55x10.3mm_P1.27mm; Datasheet: http://www.vishay.com/docs/83512/tcmt1600.pdf
part A pins: 1, 2, 15, 16
part B pins: 3, 4, 13, 14
part C pins: 5, 6, 11, 12
part D pins: 7, 8, 9, 10

## TCMT4606
designator *  value TCMT4606  Reference: U
ki_keywords: NPN AC DC Quad Phototransistor Optocoupler; ki_description: Quad AC/DC Phototransistor Optocoupler, Vce 70V, CTR 100-300%, SOP16; ki_fp_filters: SOP*4.55x10.3mm*P1.27mm*; Footprint: Package_SO:SOP-16_4.55x10.3mm_P1.27mm; Datasheet: http://www.vishay.com/docs/83512/tcmt1600.pdf
part A pins: 1, 2, 15, 16
part B pins: 3, 4, 13, 14
part C pins: 5, 6, 11, 12
part D pins: 7, 8, 9, 10

## TIL111
designator *  value TIL111  Reference: U
ki_keywords: NPN DC Optocoupler Base Connected; ki_description: DC Optocoupler, Phototransistor NPN, DIP6; ki_fp_filters: DIP*W7.62mm*; Footprint: Package_DIP:DIP-6_W7.62mm; Datasheet: https://www.egr.msu.edu/eceshop/Parts_Inventory/datasheets/til111.pdf
pins: 1, 2, 3 NC hidden, 4, 5, 6

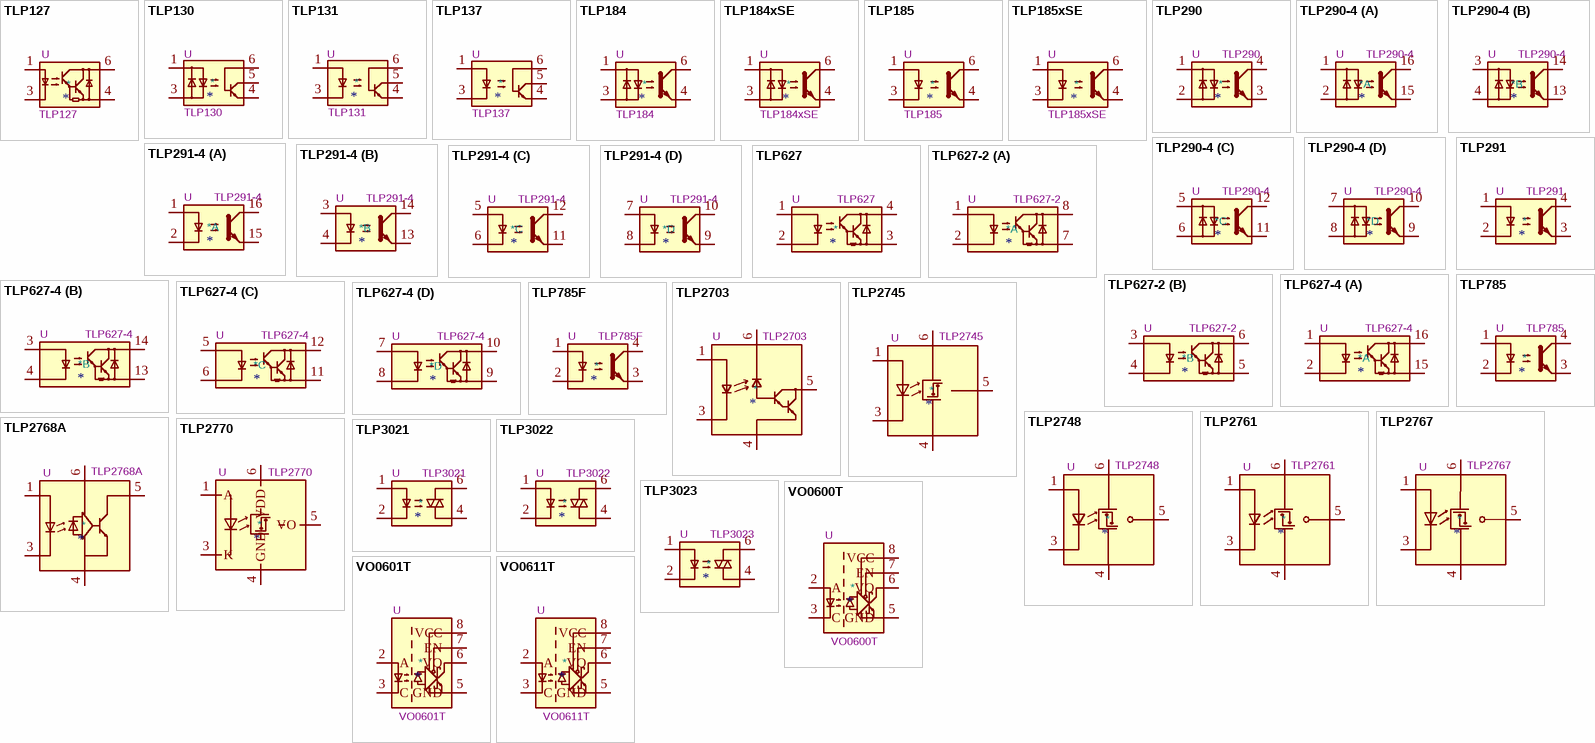
[diagram p8: symbols TLP127 to VO0611T]

## TLP127
designator *  value TLP127  Reference: U
ki_keywords: NPN Darlington DC Optocoupler; ki_description: DC Darlington Optocoupler, Vce 300V, CTR 1000%, MFSOP4; ki_fp_filters: MFSOP6*4.4x3.6mm*P1.27mm*; Footprint: Package_SO:MFSOP6-4_4.4x3.6mm_P1.27mm; Datasheet: https://toshiba.semicon-storage.com/info/docget.jsp?did=16902&prodName=TLP127
pins: 1, 3, 4, 6

## TLP130
designator *  value TLP130  Reference: U
ki_keywords: NPN AC DC Optocoupler Base Connected; ki_description: AC DC Optocoupler Base Connected, Vce 80V, CTR 50-100%, MFSOP6; ki_fp_filters: MFSOP6*4.4x3.6mm*P1.27mm*; Footprint: Package_SO:MFSOP6-5_4.4x3.6mm_P1.27mm; Datasheet: https://toshiba.semicon-storage.com/info/docget.jsp?did=16740&prodName=TLP130
pins: 1, 3, 4, 5, 6

## TLP131
designator *  value TLP131  Reference: U
ki_keywords: NPN DC Optocoupler Base Connected; ki_description: DC Optocoupler Base Connected, Vce 80V, CTR 50-200%, MFSOP6; ki_fp_filters: MFSOP6*4.4x3.6mm*P1.27mm*; Footprint: Package_SO:MFSOP6-5_4.4x3.6mm_P1.27mm; Datasheet: https://toshiba.semicon-storage.com/info/docget.jsp?did=16742&prodName=TLP131
pins: 1, 3, 4, 5, 6

## TLP137
designator *  value TLP137  Reference: U
ki_keywords: NPN DC Optocoupler Base Connected; ki_description: DC Optocoupler Base Connected, Vce 80V, CTR 100-200%, MFSOP6; ki_fp_filters: MFSOP6*4.4x3.6mm*P1.27mm*; Footprint: Package_SO:MFSOP6-5_4.4x3.6mm_P1.27mm; Datasheet: https://toshiba.semicon-storage.com/info/docget.jsp?did=16744&prodName=TLP137
pins: 1, 3, 4, 5, 6

## TLP184
designator *  value TLP184  Reference: U
ki_keywords: NPN AC DC Optocoupler; ki_description: AC/DC Optocoupler, Vce 80V, CTR 50-100%, MFSOP6; ki_fp_filters: MFSOP6*4.4x3.6mm*P1.27mm*; Footprint: Package_SO:MFSOP6-4_4.4x3.6mm_P1.27mm; Datasheet: https://toshiba.semicon-storage.com/info/docget.jsp?did=11793&prodName=TLP184
pins: 1, 3, 4, 6

## TLP184xSE
designator *  value TLP184xSE  Reference: U
ki_keywords: NPN AC DC Optocoupler; ki_description: AC/DC Optocoupler, Vce 80V, CTR 50-100%, MFSOP6; ki_fp_filters: MFSOP6*4.4x3.6mm*P1.27mm*; Footprint: Package_SO:MFSOP6-4_4.4x3.6mm_P1.27mm; Datasheet: https://toshiba.semicon-storage.com/info/docget.jsp?did=14118&prodName=TLP184(SE
pins: 1, 3, 4, 6

## TLP185
designator *  value TLP185  Reference: U
ki_keywords: NPN DC Optocoupler; ki_description: DC Optocoupler, Vce 80V, CTR 50-100%, MFSOP6; ki_fp_filters: SOIC*4.55x3.7mm*P2.54mm*; Footprint: Package_SO:SOIC-4_4.55x3.7mm_P2.54mm; Datasheet: https://toshiba.semicon-storage.com/info/docget.jsp?did=11791&prodName=TLP185
pins: 1, 3, 4, 6

## TLP185xSE
designator *  value TLP185xSE  Reference: U
ki_keywords: NPN DC Optocoupler; ki_description: DC Optocoupler, Vce 80V, CTR 50-100%, MFSOP6; ki_fp_filters: SOIC*4.55x3.7mm*P2.54mm*; Footprint: Package_SO:SOIC-4_4.55x3.7mm_P2.54mm; Datasheet: https://toshiba.semicon-storage.com/info/docget.jsp?did=14111&prodName=TLP185(SE
pins: 1, 3, 4, 6

## TLP290
designator *  value TLP290  Reference: U
ki_keywords: NPN AC DC Phototransistor Optocoupler; ki_description: AC/DC Phototransistor Optocoupler, Vce 80V, CTR 50-600%, not recommended for new designs, SOP4; ki_fp_filters: SOP*4*4.4x2.6mm*P1.27mm*; Footprint: Package_SO:SOP-4_4.4x2.6mm_P1.27mm; Datasheet: https://toshiba.semicon-storage.com/info/docget.jsp?did=12882&prodName=TLP290
pins: 1, 2, 3, 4

## TLP290-4
designator *  value TLP290-4  Reference: U
ki_keywords: NPN AC DC Quad Phototransistor Optocoupler; ki_description: Quad AC/DC Phototransistor Optocoupler, Vce 80V, CTR 50-600%, SOP16; ki_fp_filters: SOP*4.55x10.3mm*P1.27mm*; Footprint: Package_SO:SOP-16_4.55x10.3mm_P1.27mm; Datasheet: https://toshiba.semicon-storage.com/info/docget.jsp?did=12855&prodName=TLP290-4
part A pins: 1, 2, 15, 16
part B pins: 3, 4, 13, 14
part C pins: 5, 6, 11, 12
part D pins: 7, 8, 9, 10

## TLP291
designator *  value TLP291  Reference: U
ki_keywords: NPN DC Optocoupler; ki_description: DC Optocoupler, Vce 80V, CTR 50-100%, SOP4; ki_fp_filters: SOIC*4.55x2.6mm*P1.27mm*; Footprint: Package_SO:SOIC-4_4.55x2.6mm_P1.27mm; Datasheet: https://toshiba.semicon-storage.com/info/docget.jsp?did=12884&prodName=TLP291
pins: 1, 2, 3, 4

## TLP291-4
designator *  value TLP291-4  Reference: U
ki_keywords: NPN DC Quad Optocoupler; ki_description: Quad DC Optocoupler, Vce 80V, CTR 50-100%, SOP16; ki_fp_filters: SOIC*4.55x10.3mm*P1.27mm*; Footprint: Package_SO:SOIC-16_4.55x10.3mm_P1.27mm; Datasheet: https://toshiba.semicon-storage.com/info/docget.jsp?did=12858&prodName=TLP291-4
part A pins: 1, 2, 15, 16
part B pins: 3, 4, 13, 14
part C pins: 5, 6, 11, 12
part D pins: 7, 8, 9, 10

## TLP627
designator *  value TLP627  Reference: U
ki_keywords: NPN Darlington DC Optocoupler; ki_description: DC Darlington Optocoupler, Vce 300V, CTR 1000%, DIP4; ki_fp_filters: DIP*W7.62mm*; Footprint: Package_DIP:DIP-4_W7.62mm; Datasheet: https://toshiba.semicon-storage.com/info/docget.jsp?did=16914&prodName=TLP627
pins: 1, 2, 3, 4

## TLP627-2
designator *  value TLP627-2  Reference: U
ki_keywords: NPN Dual Darlington DC Optocoupler; ki_description: DC Dual Darlington Optocoupler, Vce 300V, CTR 1000%, DIP8; ki_fp_filters: DIP*W7.62mm*; Footprint: Package_DIP:DIP-8_W7.62mm; Datasheet: https://toshiba.semicon-storage.com/info/docget.jsp?did=16914&prodName=TLP627
part A pins: 1, 2, 7, 8
part B pins: 3, 4, 5, 6

## TLP627-4
designator *  value TLP627-4  Reference: U
ki_keywords: NPN Quad Darlington DC Optocoupler; ki_description: DC Quad Darlington Optocoupler, Vce 300V, CTR 1000%, DIP16; ki_fp_filters: DIP*W7.62mm*; Footprint: Package_DIP:DIP-16_W7.62mm; Datasheet: https://toshiba.semicon-storage.com/info/docget.jsp?did=16914&prodName=TLP627
part A pins: 1, 2, 15, 16
part B pins: 3, 4, 13, 14
part C pins: 5, 6, 11, 12
part D pins: 7, 8, 9, 10

## TLP785
designator *  value TLP785  Reference: U
ki_keywords: NPN DC Optocoupler; ki_description: DC Optocoupler, Vce 80V, CTR 50-200%, DIP4; ki_fp_filters: DIP*W7.62mm*; Footprint: Package_DIP:DIP-4_W7.62mm; Datasheet: https://toshiba.semicon-storage.com/info/docget.jsp?did=10569&prodName=TLP785
pins: 1, 2, 3, 4

## TLP785F
designator *  value TLP785F  Reference: U
ki_keywords: NPN DC Optocoupler; ki_description: DC Optocoupler, Vce 80V, CTR 50-200%, DIP4F; ki_fp_filters: DIP*W10.16mm*; Footprint: Package_DIP:DIP-4_W10.16mm; Datasheet: https://toshiba.semicon-storage.com/info/docget.jsp?did=10569&prodName=TLP785F
pins: 1, 2, 3, 4

## TLP2703
designator *  value TLP2703  Reference: U
ki_keywords: NPN Darlington DC Optocoupler; ki_description: 100 kbps, High-speed GaA&As, high-gain, 4.5 - 18 VCC, 5 kVrms, CTR 900%, SO-6L; ki_fp_filters: SO*6L*10x3.84mm*P1.27mm*; Footprint: Package_SO:SO-6L_10x3.84mm_P1.27mm; Datasheet: https://toshiba.semicon-storage.com/info/docget.jsp?did=15216&prodName=TLP2703
pins: 1 A, 2 NC hidden, 3 K, 4 GND, 5 Out, 6 VCC

## TLP2745
designator *  value TLP2745  Reference: U
ki_keywords: Photocouple highspeed non inverting push-pull output; ki_description: 10-Mbps low-power non inverting photocouple,5 kVrms, 4.5 - 30 Vdd, push-pull output; ki_fp_filters: SO*6L*10x3.84mm*P1.27mm*; Footprint: Package_SO:SO-6L_10x3.84mm_P1.27mm; Datasheet: https://toshiba.semicon-storage.com/info/docget.jsp?did=29405&prodName=TLP2745
pins: 1 A, 2 NC hidden, 3 K, 4 GND, 5 VO, 6 VDD

## TLP2748
designator *  value TLP2748  Reference: U
ki_keywords: Photocouple highspeed inverting push-pull output; ki_description: 10-Mbps inverting photocouple,5 kVrms, 4.5 - 30 Vdd, push-pull output, SO-6L; ki_fp_filters: SO*6L*10x3.84mm*P1.27mm*; Footprint: Package_SO:SO-6L_10x3.84mm_P1.27mm; Datasheet: https://toshiba.semicon-storage.com/info/docget.jsp?did=29407&prodName=TLP2748
pins: 1 A, 2 NC hidden, 3 K, 4 GND, 5 VO, 6 VDD

## TLP2761
designator *  value TLP2761  Reference: U
ki_keywords: Photocouple highspeed inverting push-pull output; ki_description: 15-Mbps inverting photocouple,5 kVrms, 2.7 - 5.5 Vdd, push-pull output; ki_fp_filters: SO*6L*10x3.84mm*P1.27mm*; Footprint: Package_SO:SO-6L_10x3.84mm_P1.27mm; Datasheet: https://toshiba.semicon-storage.com/info/docget.jsp?did=28819&prodName=TLP2761
pins: 1 A, 2 NC hidden, 3 K, 4 GND, 5 VO, 6 VDD

## TLP2767
designator *  value TLP2767  Reference: U
ki_keywords: Photocouple highspeed non inverting push-pull output; ki_description: 50-Mbps high speed inverting photocouple,5 kVrms, 2.7 - 5.5 Vdd, push-pull output; ki_fp_filters: SO*6L*10x3.84mm*P1.27mm*; Footprint: Package_SO:SO-6L_10x3.84mm_P1.27mm; Datasheet: https://toshiba.semicon-storage.com/info/docget.jsp?did=36717&prodName=TLP2767
pins: 1 A, 2 NC hidden, 3 K, 4 GND, 5 VO, 6 VDD

## TLP2768A
designator *  value TLP2768A  Reference: U
ki_keywords: Photocouple highspeed inverting open collector output; ki_description: 20-Mbps high speed inverting photocouple,5 kVrms, 2.7 - 5.5 Vdd, open collector, SO-6L; ki_fp_filters: SO*6L*10x3.84mm*P1.27mm*; Footprint: Package_SO:SO-6L_10x3.84mm_P1.27mm; Datasheet: https://toshiba.semicon-storage.com/info/docget.jsp?did=36717&prodName=TLP2768A
pins: 1 A, 2 NC hidden, 3 K, 4 GND, 5 VO, 6 VDD

## TLP2770
designator *  value TLP2770  Reference: U
ki_keywords: Photocouple highspeed non inverting push-pull output; ki_description: 20-Mbps low-power non inverting photocouple,5 kVrms, 2.7 to 5.5 Vdd, push-pull output, SO-6L; ki_fp_filters: SO*6L*10x3.84mm*P1.27mm*; Footprint: Package_SO:SO-6L_10x3.84mm_P1.27mm; Datasheet: https://toshiba.semicon-storage.com/info/docget.jsp?did=53548&prodName=TLP2770
pins: 1 A, 2 NC hidden, 3 K, 4 GND, 5 VO, 6 VDD

## TLP3021
designator *  value TLP3021  Reference: U
ki_keywords: Photo-Triac Opto Triac; ki_description: Photo-Triac, Vdrm 400V, Ift 15mA, DIP6; ki_fp_filters: Toshiba*11?7A9*; Footprint: Package_DIP:Toshiba_11-7A9; Datasheet: https://toshiba.semicon-storage.com/info/docget.jsp?did=1421&prodName=TLP3021(S)
pins: 1, 2, 3 NC hidden, 4, 6

## TLP3022
designator *  value TLP3022  Reference: U
ki_keywords: Photo-Triac Opto Triac; ki_description: Photo-Triac, Vdrm 400V, Ift 10mA, DIP6; ki_fp_filters: Toshiba*11?7A9*; Footprint: Package_DIP:Toshiba_11-7A9; Datasheet: https://toshiba.semicon-storage.com/info/docget.jsp?did=1421&prodName=TLP3021(S)
pins: 1, 2, 3 NC hidden, 4, 6

## TLP3023
designator *  value TLP3023  Reference: U
ki_keywords: Photo-Triac Opto Triac; ki_description: Photo-Triac, Vdrm 400V, Ift 5mA, DIP6; ki_fp_filters: Toshiba*11?7A9*; Footprint: Package_DIP:Toshiba_11-7A9; Datasheet: https://toshiba.semicon-storage.com/info/docget.jsp?did=1421&prodName=TLP3021(S)
pins: 1, 2, 3 NC hidden, 4, 6

## VO0600T
designator *  value VO0600T  Reference: U
ki_keywords: High speed optically coupled gates enable; ki_description: Single High Speed CMOS Compatible Optocoupler with enable, dV/dt 1000/us, VCM 10, max 7V VCC, SOIC-8; ki_fp_filters: SOIC*3.9x4.9mm?P1.27mm*; Footprint: Package_SO:SOIC-8_3.9x4.9mm_P1.27mm; Datasheet: http://www.vishay.com/doc?84607
pins: 1 NC hidden, 2 A, 3 C, 5 GND, 6 VO, 7 EN, 8 VCC

## VO0601T
designator *  value VO0601T  Reference: U
ki_keywords: High speed optically coupled gates enable; ki_description: Single High Speed CMOS Compatible Optocoupler with enable, dV/dt 5000/us, VCM 50, max 7V VCC, SOIC-8; ki_fp_filters: SOIC*3.9x4.9mm?P1.27mm*; Footprint: Package_SO:SOIC-8_3.9x4.9mm_P1.27mm; Datasheet: http://www.vishay.com/doc?84607
pins: 1 NC hidden, 2 A, 3 C, 5 GND, 6 VO, 7 EN, 8 VCC

## VO0611T
designator *  value VO0611T  Reference: U
ki_keywords: High speed optically coupled gates enable; ki_description: Single High Speed CMOS Compatible Optocoupler with enable, dV/dt 15000/us, VCM 1000, max 7V VCC, SOIC-8; ki_fp_filters: SOIC*3.9x4.9mm?P1.27mm*; Footprint: Package_SO:SOIC-8_3.9x4.9mm_P1.27mm; Datasheet: http://www.vishay.com/doc?84607
pins: 1 NC hidden, 2 A, 3 C, 5 GND, 6 VO, 7 EN, 8 VCC

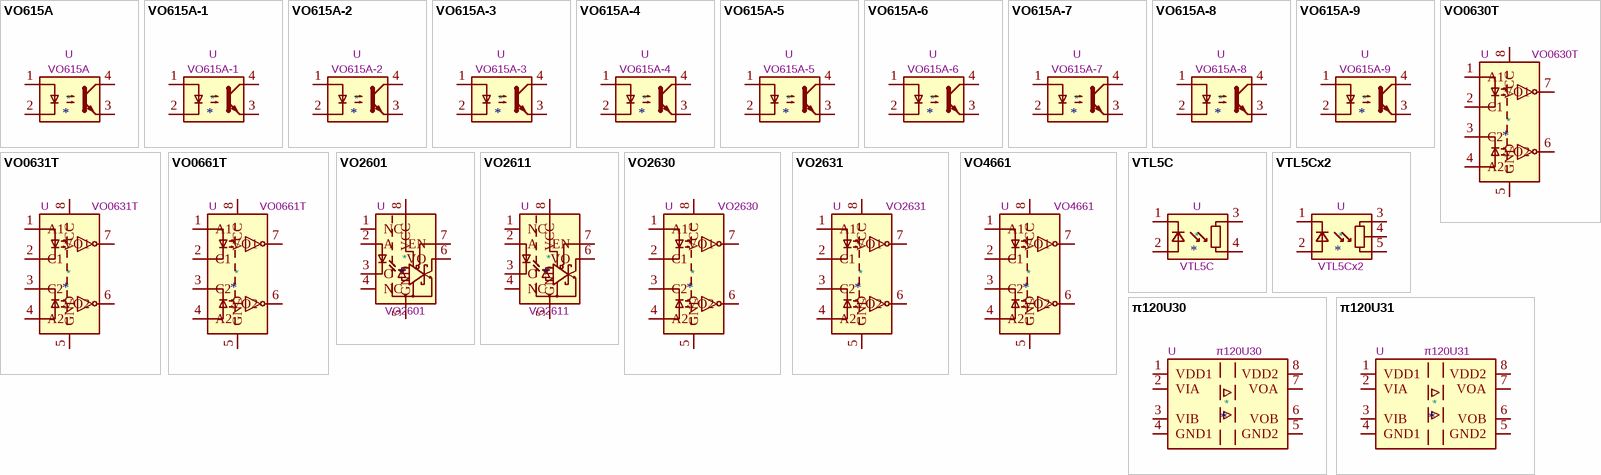
[diagram p9: symbols VO615A to π120U31]

## VO615A
designator *  value VO615A  Reference: U
ki_keywords: NPN DC Optocoupler; ki_description: DC Optocoupler, Vce 70V, CTR 50-600% @ 5mA, Viso 5000Vrms, DIP4; ki_fp_filters: DIP*W7.62mm* DIP*W10.16mm* SMDIP*W7.62mm* SMDIP*W9.53mm* SMDIP*W11.48mm*; Datasheet: http://www.vishay.com/docs/81753/vo615a.pdf
pins: 1, 2, 3, 4

## VO615A-1
designator *  value VO615A-1  Reference: U
ki_keywords: NPN DC Optocoupler; ki_description: DC Optocoupler, Vce 70V, CTR 40-80% @ 10mA, Viso 5000Vrms, DIP4; ki_fp_filters: DIP*W7.62mm* DIP*W10.16mm* SMDIP*W7.62mm* SMDIP*W9.53mm* SMDIP*W11.48mm*; Datasheet: http://www.vishay.com/docs/81753/vo615a.pdf
pins: 1, 2, 3, 4

## VO615A-2
designator *  value VO615A-2  Reference: U
ki_keywords: NPN DC Optocoupler; ki_description: DC Optocoupler, Vce 70V, CTR 63-125% @ 10mA, Viso 5000Vrms, DIP4; ki_fp_filters: DIP*W7.62mm* DIP*W10.16mm* SMDIP*W7.62mm* SMDIP*W9.53mm* SMDIP*W11.48mm*; Datasheet: http://www.vishay.com/docs/81753/vo615a.pdf
pins: 1, 2, 3, 4

## VO615A-3
designator *  value VO615A-3  Reference: U
ki_keywords: NPN DC Optocoupler; ki_description: DC Optocoupler, Vce 70V, CTR 100-200% @ 10mA, Viso 5000Vrms, DIP4; ki_fp_filters: DIP*W7.62mm* DIP*W10.16mm* SMDIP*W7.62mm* SMDIP*W9.53mm* SMDIP*W11.48mm*; Datasheet: http://www.vishay.com/docs/81753/vo615a.pdf
pins: 1, 2, 3, 4

## VO615A-4
designator *  value VO615A-4  Reference: U
ki_keywords: NPN DC Optocoupler; ki_description: DC Optocoupler, Vce 70V, CTR 160-320% @ 10mA, Viso 5000Vrms, DIP4; ki_fp_filters: DIP*W7.62mm* DIP*W10.16mm* SMDIP*W7.62mm* SMDIP*W9.53mm* SMDIP*W11.48mm*; Datasheet: http://www.vishay.com/docs/81753/vo615a.pdf
pins: 1, 2, 3, 4

## VO615A-5
designator *  value VO615A-5  Reference: U
ki_keywords: NPN DC Optocoupler; ki_description: DC Optocoupler, Vce 70V, CTR 50-150% @ 5mA, Viso 5000Vrms, DIP4; ki_fp_filters: DIP*W7.62mm* DIP*W10.16mm* SMDIP*W7.62mm* SMDIP*W9.53mm* SMDIP*W11.48mm*; Datasheet: http://www.vishay.com/docs/81753/vo615a.pdf
pins: 1, 2, 3, 4

## VO615A-6
designator *  value VO615A-6  Reference: U
ki_keywords: NPN DC Optocoupler; ki_description: DC Optocoupler, Vce 70V, CTR 100-300% @ 5mA, Viso 5000Vrms, DIP4; ki_fp_filters: DIP*W7.62mm* DIP*W10.16mm* SMDIP*W7.62mm* SMDIP*W9.53mm* SMDIP*W11.48mm*; Datasheet: http://www.vishay.com/docs/81753/vo615a.pdf
pins: 1, 2, 3, 4

## VO615A-7
designator *  value VO615A-7  Reference: U
ki_keywords: NPN DC Optocoupler; ki_description: DC Optocoupler, Vce 70V, CTR 80-160% @ 5mA, Viso 5000Vrms, DIP4; ki_fp_filters: DIP*W7.62mm* DIP*W10.16mm* SMDIP*W7.62mm* SMDIP*W9.53mm* SMDIP*W11.48mm*; Datasheet: http://www.vishay.com/docs/81753/vo615a.pdf
pins: 1, 2, 3, 4

## VO615A-8
designator *  value VO615A-8  Reference: U
ki_keywords: NPN DC Optocoupler; ki_description: DC Optocoupler, Vce 70V, CTR 130-260% @ 5mA, Viso 5000Vrms, DIP4; ki_fp_filters: DIP*W7.62mm* DIP*W10.16mm* SMDIP*W7.62mm* SMDIP*W9.53mm* SMDIP*W11.48mm*; Datasheet: http://www.vishay.com/docs/81753/vo615a.pdf
pins: 1, 2, 3, 4

## VO615A-9
designator *  value VO615A-9  Reference: U
ki_keywords: NPN DC Optocoupler; ki_description: DC Optocoupler, Vce 70V, CTR 200-400% @ 5mA, Viso 5000Vrms, DIP4; ki_fp_filters: DIP*W7.62mm* DIP*W10.16mm* SMDIP*W7.62mm* SMDIP*W9.53mm* SMDIP*W11.48mm*; Datasheet: http://www.vishay.com/docs/81753/vo615a.pdf
pins: 1, 2, 3, 4

## VO0630T
designator *  value VO0630T  Reference: U
ki_keywords: High speed optically coupled gates; ki_description: Dual High Speed CMOS Compatible Optocoupler, dV/dt 1000/us, VCM 50, max 7V VCC, SOIC-8; ki_fp_filters: SOIC*3.9x4.9mm?P1.27mm*; Footprint: Package_SO:SOIC-8_3.9x4.9mm_P1.27mm; Datasheet: http://www.vishay.com/doc?84607
pins: 1 A1, 2 C1, 3 C2, 4 A2, 5 GND, 6 VO2, 7 VO1, 8 VCC

## VO0631T
designator *  value VO0631T  Reference: U
ki_keywords: High speed optically coupled gates; ki_description: Dual High Speed CMOS Compatible Optocoupler, dV/dt 5000/us, VCM 1000, max 7V VCC, SOIC-8; ki_fp_filters: SOIC*3.9x4.9mm?P1.27mm*; Footprint: Package_SO:SOIC-8_3.9x4.9mm_P1.27mm; Datasheet: http://www.vishay.com/doc?84607
pins: 1 A1, 2 C1, 3 C2, 4 A2, 5 GND, 6 VO2, 7 VO1, 8 VCC

## VO0661T
designator *  value VO0661T  Reference: U
ki_keywords: High speed optically coupled gates; ki_description: Dual High Speed CMOS Compatible Optocoupler, dV/dt 15000/us, VCM 1000, max 7V VCC, SOIC-8; ki_fp_filters: SOIC*3.9x4.9mm?P1.27mm*; Footprint: Package_SO:SOIC-8_3.9x4.9mm_P1.27mm; Datasheet: http://www.vishay.com/doc?84607
pins: 1 A1, 2 C1, 3 C2, 4 A2, 5 GND, 6 VO2, 7 VO1, 8 VCC

## VO2601
designator *  value VO2601  Reference: U
ki_keywords: High speed optically coupled gates enable; ki_description: Single High Speed CMOS Compatible Optocoupler with enable, dV/dt 5000/us, VCM 50, max 7V VCC, DIP-8; ki_fp_filters: DIP*W7.62mm*; Footprint: Package_DIP:DIP-8_W7.62mm; Datasheet: https://www.vishay.com/doc?84732
pins: 1 NC, 2 A, 3 C, 4 NC, 5 GND, 6 VO, 7 EN, 8 VCC

## VO2611
designator *  value VO2611  Reference: U
ki_keywords: High speed optically coupled gates enable; ki_description: Single High Speed CMOS Compatible Optocoupler with enable, dV/dt 15000/us, VCM 1000, max 7V VCC, DIP-8; ki_fp_filters: DIP*W7.62mm*; Footprint: Package_DIP:DIP-8_W7.62mm; Datasheet: https://www.vishay.com/doc?84732
pins: 1 NC, 2 A, 3 C, 4 NC, 5 GND, 6 VO, 7 EN, 8 VCC

## VO2630
designator *  value VO2630  Reference: U
ki_keywords: High speed optically coupled gates; ki_description: Dual High Speed CMOS Compatible Optocoupler, dV/dt 1000/us, VCM 10, max 7V VCC, DIP-8; ki_fp_filters: DIP*W7.62mm*; Footprint: Package_DIP:DIP-8_W7.62mm; Datasheet: https://www.vishay.com/doc?84732
pins: 1 A1, 2 C1, 3 C2, 4 A2, 5 GND, 6 VO2, 7 VO1, 8 VCC

## VO2631
designator *  value VO2631  Reference: U
ki_keywords: High speed optically coupled gates; ki_description: Dual High Speed CMOS Compatible Optocoupler, dV/dt 5000/us, VCM 50, max 7V VCC, DIP-8; ki_fp_filters: DIP*W7.62mm*; Footprint: Package_DIP:DIP-8_W7.62mm; Datasheet: https://www.vishay.com/doc?84732
pins: 1 A1, 2 C1, 3 C2, 4 A2, 5 GND, 6 VO2, 7 VO1, 8 VCC

## VO4661
designator *  value VO4661  Reference: U
ki_keywords: High speed optically coupled gates; ki_description: Dual High Speed CMOS Compatible Optocoupler, dV/dt 15000/us, VCM 1000, max 7V VCC, DIP-8; ki_fp_filters: DIP*W7.62mm*; Footprint: Package_DIP:DIP-8_W7.62mm; Datasheet: https://www.vishay.com/doc?84732
pins: 1 A1, 2 C1, 3 C2, 4 A2, 5 GND, 6 VO2, 7 VO1, 8 VCC

## VTL5C
designator *  value VTL5C  Reference: U
ki_keywords: vactrol; ki_description: Low Cost Axial Vactrols; ki_fp_filters: PerkinElmer*VTL5C*; Footprint: OptoDevice:PerkinElmer_VTL5C; Datasheet: http://www.qsl.net/wa1ion/vactrol/vactrol.pdf
pins: 1 -, 2 +, 3, 4

## VTL5Cx2
designator *  value VTL5Cx2  Reference: U
ki_keywords: vactrol; ki_description: Dual Element Axial Vactrols; ki_fp_filters: PerkinElmer*VTL5C*; Footprint: OptoDevice:PerkinElmer_VTL5Cx2; Datasheet: http://www.alliedelec.com/m/d/ecb1ed91959ae54d97cf67f5103d9b2b.pdf
pins: 1 -, 2 +, 3, 4, 5

## π120U30
designator *  value π120U30  Reference: U
ki_keywords: Dual-channel digital isolator pi120U30; ki_description: Dual-channel digital isolator, 3V/5V level translation, Safe LOW, SOIC-8; ki_fp_filters: SOIC*3.9x4.9mm*P1.27mm*; Footprint: Package_SO:SOIC-8_3.9x4.9mm_P1.27mm; Datasheet: http://www.rpsemi.com/public/doc/2Pai_%CF%8012xUxx_20200416_EN.pdf
pins: 1 VDD1, 2 VIA, 3 VIB, 4 GND1, 5 GND2, 6 VOB, 7 VOA, 8 VDD2

## π120U31
designator *  value π120U31  Reference: U
ki_keywords: Dual-channel digital isolator pi120U31; ki_description: Dual-channel digital isolator, 3V/5V level translation, Safe HIGH, SOIC-8; ki_fp_filters: SOIC*3.9x4.9mm*P1.27mm*; Footprint: Package_SO:SOIC-8_3.9x4.9mm_P1.27mm; Datasheet: http://www.rpsemi.com/public/doc/2Pai_%CF%8012xUxx_20200416_EN.pdf
pins: 1 VDD1, 2 VIA, 3 VIB, 4 GND1, 5 GND2, 6 VOB, 7 VOA, 8 VDD2